# EAGLE library part HEADER_2X8 (library heck)
PIN HEADER
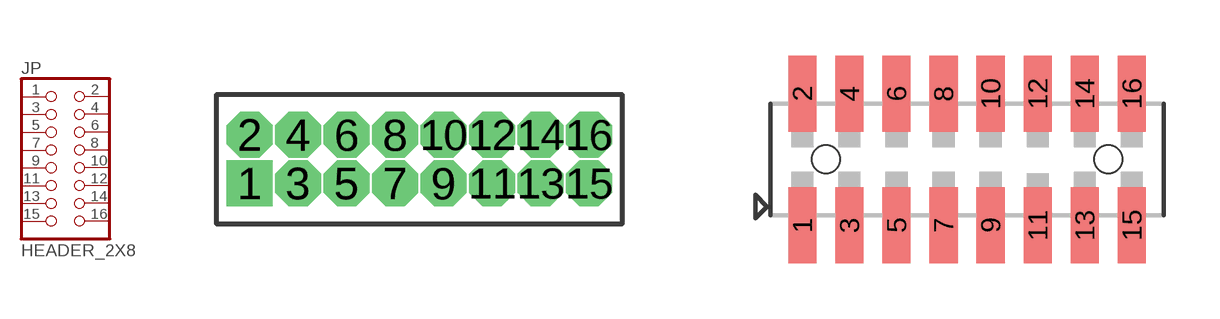
[diagram p3: symbol with the pads of HEADER_50MIL_2X8; footprints HEADER_50MIL_2X8, HEADER_SOCKET_50MIL_2X8_SMD]

Designator prefix JP

## HEADER_2X8  [HEADER_50MIL_2X8]
1  1  pas
2  2  pas
3  3  pas
4  4  pas
5  5  pas
6  6  pas
7  7  pas
8  8  pas
9  9  pas
10  10  pas
11  11  pas
12  12  pas
13  13  pas
14  14  pas
15  15  pas
16  16  pas

## HEADER_2X8FEMALE  [HEADER_SOCKET_50MIL_2X8_SMD]
Pads as for HEADER_50MIL_2X8

## HEADER_2X8FEMALE_REVERSE  [HEADER_SOCKET_50MIL_2X8_SMD_REVERSE]
Pads as for HEADER_50MIL_2X8

## HEADER_2X8_100MIL  [HEADER_100MIL_2X8]
Pads as for HEADER_50MIL_2X8

## Footprint HEADER_50MIL_2X8 (pad centres in mm)
drill 0.7 pad 1.016 square: 1 -4.445,-0.635
drill 0.7 pad 1.016 octagon: 2 -4.445,0.635; 3 -3.175,-0.635; 4 -3.175,0.635; 5 -1.905,-0.635; 6 -1.905,0.635; 7 -0.635,-0.635; 8 -0.635,0.635; 9 0.635,-0.635; 10 0.635,0.635; 11 1.905,-0.635; 12 1.905,0.635; 13 3.175,-0.635; 14 3.175,0.635; 15 4.445,-0.635; 16 4.445,0.635

## Footprint HEADER_SOCKET_50MIL_2X8_SMD (pad centres in mm)
smd 0.76 x 2.05: 1 -4.445,-1.775; 2 -4.445,1.775; 3 -3.175,-1.775; 4 -3.175,1.775; 5 -1.905,-1.775; 6 -1.905,1.775; 7 -0.635,-1.775; 8 -0.635,1.775; 9 0.635,-1.775; 10 0.635,1.775; 11 1.905,-1.775; 12 1.905,1.775; 13 3.175,-1.775; 14 3.175,1.775; 15 4.445,-1.775; 16 4.445,1.775
hole 0.76 at -3.81,0
hole 0.76 at 3.81,0

## Footprint HEADER_SOCKET_50MIL_2X8_SMD_REVERSE (pad centres in mm)
Sullins LPPB082NFSP-RC
smd 0.76 x 2.05: 1 4.445,-1.775; 2 4.445,1.775; 3 3.175,-1.775; 4 3.175,1.775; 5 1.905,-1.775; 6 1.905,1.775; 7 0.635,-1.775; 8 0.635,1.775; 9 -0.635,-1.775; 10 -0.635,1.775; 11 -1.905,-1.775; 12 -1.905,1.775; 13 -3.175,-1.775; 14 -3.175,1.775; 15 -4.445,-1.775; 16 -4.445,1.775
hole 0.71 at -3.81,0
hole 0.71 at 3.81,0

## Footprint HEADER_100MIL_2X8 (pad centres in mm)
drill 1.016 pad 1.524: 1 -8.89,-1.27; 2 -8.89,1.27; 3 -6.35,-1.27; 4 -6.35,1.27; 5 -3.81,-1.27; 6 -3.81,1.27; 7 -1.27,-1.27; 8 -1.27,1.27; 9 1.27,-1.27; 10 1.27,1.27; 11 3.81,-1.27; 12 3.81,1.27; 13 6.35,-1.27; 14 6.35,1.27; 15 8.89,-1.27; 16 8.89,1.27